# Altium footprint library Capacitors SMD.PcbLib: 2 footprints
Each footprint in its own frame and in the unit in brackets; x right, y up, seen from the top. Pads: shape width x height; smd on the part's side, far side on the other; paste and mask are expansions set on the pad; w line width, h text height; cw(c..) or ccw(c..) is an arc to the next point about the centre after c.
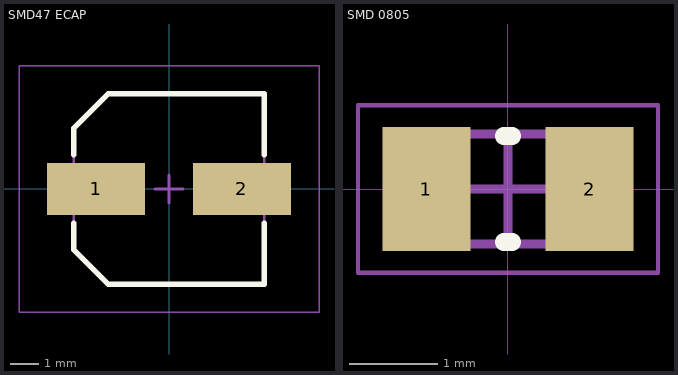
[diagram p0: the footprints below, top view; thin cyan lines are the x and y axes]

## SMD47 ECAP [mm] "47µF 10V ±20% SMD Electrolytic Capacitor, 105°C, O6.3?5.4mm (JB)"
height 5.9
pads (2):
  rect 3.5x1.85 smd: 1(-2.6,0) 2(2.6,0)
Top Overlay:
  lines w0.2: -3.4,-1.225 -3.4,-2.163 -2.163,-3.4 3.4,-3.4 3.4,-1.225 ; -3.4,1.225 -3.4,2.163 -2.163,3.4 3.4,3.4 3.4,1.225
Top Assembly:
  lines w0.1: -3.4,-2.163 -3.4,2.163 -2.163,3.4 3.4,3.4 3.4,-3.4 -2.163,-3.4 -3.4,-2.163
Top Courtyard:
  lines w0.05: -5.35,-4.4 5.35,-4.4 5.35,4.4 -5.35,4.4 -5.35,-4.4
  lines w0.1: -0.5,0 0.5,0 ; 0,-0.5 0,0.5
3D body: height 5.9, standoff 0, extent -3.4,-3.4 3.4,3.4
3D body: height 1.97, standoff 0, extent -3.4,-3.4 3.4,3.4

## SMD 0805 [mm] "Chip Capacitor, 2-Leads, Body 2,00x1,25mm, IPC Medium Density"
height 1.4
pads (2):
  rect 1x1.4 smd: 1(-0.925,0) 2(0.925,0)
Top Overlay:
  lines w0.2: -0.05,-0.6 0.05,-0.6 ; -0.05,0.6 0.05,0.6
Top Assembly:
  lines w0.1: -1,-0.625 -1,0.625 1,0.625 1,-0.625 -1,-0.625
Top Courtyard:
  lines w0.05: -1.7,-0.95 -1.7,0.95 1.7,0.95 1.7,-0.95 -1.7,-0.95
  lines w0.1: -0.5,0 0.5,0 ; 0,-0.5 0,0.5
3D body "CAPC2012X14N.step": height 1.4, standoff 0, extent -1,-0.625 1,0.625